# Altium footprint library YIS370.PcbLib: 1 footprints
Each footprint in its own frame and in the unit in brackets; x right, y up, seen from the top. Pads: shape width x height; smd on the part's side, far side on the other; paste and mask are expansions set on the pad; w line width, h text height; cw(c..) or ccw(c..) is an arc to the next point about the centre after c.
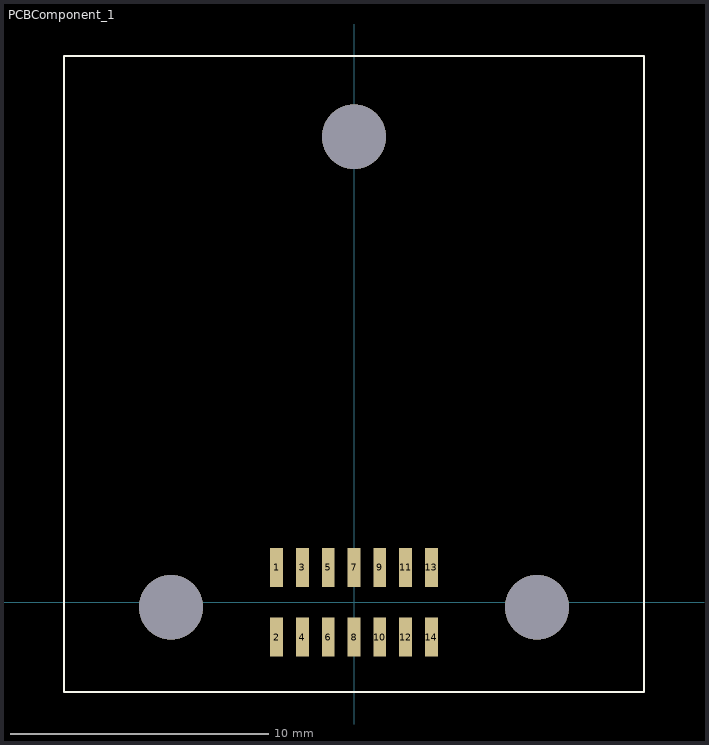
[diagram p0: the footprint, top view; thin cyan lines are the x and y axes]

## PCBComponent_1 [mm]
pads (14):
  rect 0.5x1.5 smd mask+0.051: 1(-3,1.35) 2(-3,-1.35) 3(-2,1.35) 4(-2,-1.35) 5(-1,1.35) 6(-1,-1.35) 7(0,1.35) 8(0,-1.35) 9(1,1.35) 10(1,-1.35) 11(2,1.35) 12(2,-1.35) 13(3,1.35) 14(3,-1.35)
via -7.1,-0.19 diameter 2.5 hole 2.5
via 7.1,-0.19 diameter 2.5 hole 2.5
via 0,18.06 diameter 2.5 hole 2.5
Top Overlay:
  lines w0.076: -11.25,-3.49 11.25,-3.49 11.25,21.2 -11.25,21.2 -11.25,-3.49
3D body: height 5, standoff 0, extent -3.5,-1.2 3.5,1.2